# EAGLE library part CON_USB-C-6 (library akita)
USB Type-C Receptacle, 6p (with 18p dummy), no D+/D-
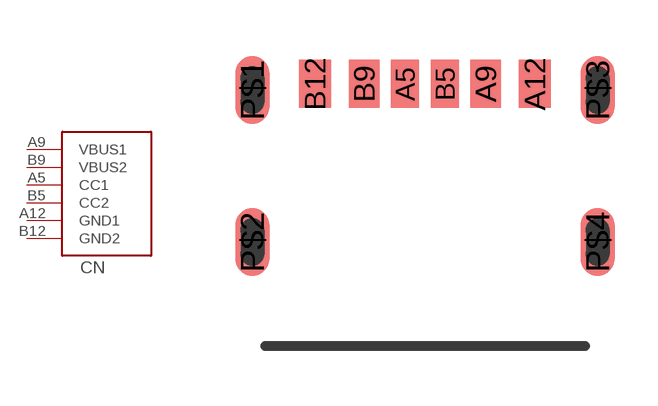
[diagram p208: symbol with the pads of USB-C_6P; footprint USB-C_6P]

Designator prefix CN

## CON_USB-C-6  [USB-C_6P]
A5  CC1
A9  VBUS1
A12  GND1
B5  CC2
B9  VBUS2
B12  GND2

## Footprint USB-C_6P (pad centres in mm)
USB TypeC Receptacle, 6p (with 18p dummy), no D+/D-
smd 0.7 x 1.2: A5 -0.5,3; B5 0.5,3
smd 0.76 x 1.2: A9 1.52,3; B9 -1.52,3
smd 0.8 x 1.2: A12 2.75,3; B12 -2.75,3
smd 0.85 x 1.7: P$1 -4.32,2.85; P$2 -4.32,-0.95; P$3 4.32,2.85; P$4 4.32,-0.95